# Altium footprint library RelèBluetooth.PcbLib: 19 footprints (part 1 of 2)
Each footprint in its own frame and in the unit in brackets; x right, y up, seen from the top. Pads: shape width x height; smd on the part's side, far side on the other; paste and mask are expansions set on the pad; w line width, h text height; cw(c..) or ccw(c..) is an arc to the next point about the centre after c.
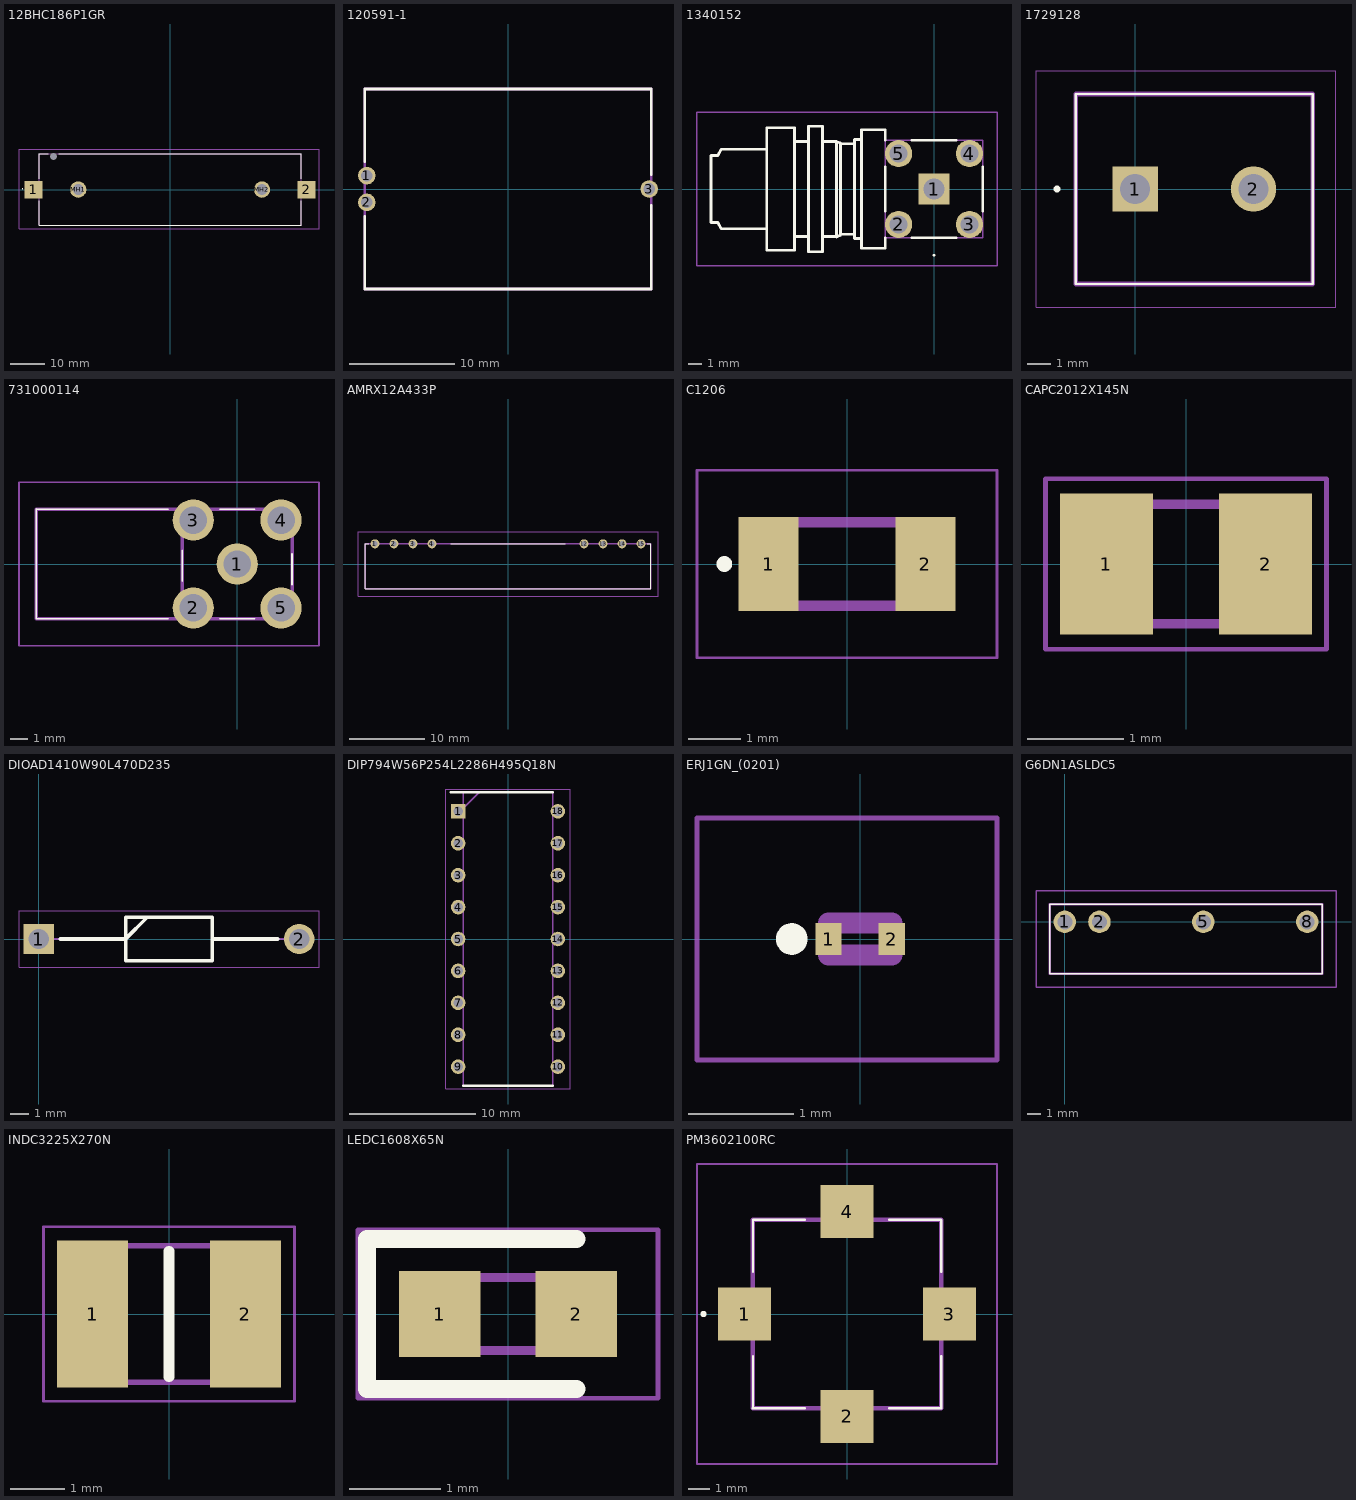
[diagram p0: the footprints below, top view; thin cyan lines are the x and y axes]

## 12BHC186P1GR [mm]
pads (5):
  rect 5.3x5.12 smd: 1(-40.1,0) 2(40.1,0)
  round 4.8 hole 3.2: MH1(-27,0) MH2(27,0)
  round 1 hole 2 unplated: MH3(-34.25,9.75)
Top Overlay:
  lines w0.1: -38.5,-10.5 -38.5,-3.25 -38.5,-10.5 ; -38.5,-10.5 38.5,-10.5 ; -38.5,-10.5 38.5,-10.5 ; -38.5,10.5 -38.5,3.25 -38.5,10.5 ; -38.5,10.5 -35.75,10.5 -38.5,10.5 ; 38.5,-10.5 38.5,-3.25 38.5,-10.5 ; 38.5,10.5 38.5,3.25 38.5,10.5 ; 38.5,10.5 -32.75,10.5 38.5,10.5
  lines w0.2: -43.4,0.25 ccw(c-43.35,0.25) -43.3,0.25 ; -43.4,0.25 cw(c-43.35,0.25) -43.3,0.25 ; -43.4,0.25 ccw(c-43.35,0.25) -43.3,0.25
Mechanical 13:
  lines w0.2: -38.5,-10.5 -38.5,10.5 38.5,10.5 38.5,-10.5 -38.5,-10.5
Mechanical 15:
  lines w0.1: -44.4,-11.5 -44.4,11.85 43.75,11.85 43.75,-11.5 -44.4,-11.5
3D body "12BHC186P1-GR.stp": height 20.3, standoff -1.8, extent -42.68,-10.5 42.42,10.5

## 120591-1 [mm]
pads (3):
  round 1.67 hole 1.12: 1(-13.46,1.27) 2(-13.46,-1.27) 3(13.46,0)
Top Overlay:
  lines w0.254: -13.65,-2.62 -13.65,-9.525 13.65,-9.525 13.65,-1.538 ; -13.65,2.615 -13.65,9.525 13.65,9.525 13.65,1.359
Mechanical 13:
  lines w0.254: -13.65,-9.525 -13.65,9.525 13.65,9.525 13.65,-9.525 -13.65,-9.525
3D body "120591-1.stp": height 6.32, standoff -3.13, extent -13.684,-9.525 13.621,9.525

## 1340152 [mm]
pads (5):
  rect 2.25x2.25 hole 1.5: 1(0,0)
  round 1.95 hole 1.3: 2(-2.54,-2.54) 3(2.54,-2.54) 4(2.54,2.54) 5(-2.54,2.54)
Top Overlay:
  lines w0.1: 0,-4.8 cw(c0,-4.75) 0,-4.7 cw(c0,-4.75) 0,-4.8
  lines w0.2: -12,-3.15 -12,2.85 ; -10,-3.55 -10,3.5 ; -9,-3.5 -9,3.45 ; -8,-3.5 -8,3.45 ; -7,-3.4 -8,-3.4 -8,-4.5 -9,-4.5 -9,-3.4 -10,-3.4 -10,-4.4 -12,-4.4 -12,-2.85 -15.25,-2.85 -15.5,-2.4 -16,-2.4 ; -6.7,-3.25 -5.7,-3.25 -5.7,-3.55 -5.2,-3.55 ; -6.7,3.25 -5.7,3.25 ; -5.7,-3.3 -5.7,3.25 ; -3.5,-3.5 -3.5,-4.25 -5.2,-4.25 -5.2,-3.55 ; -3.5,-1.6 -3.5,1.6 ; -3.5,3.5 -3.5,4.25 -5.2,4.25 -5.2,3.55 ; -1.6,-3.5 1.6,-3.5 ; -1.6,3.5 1.6,3.5 ; 3.5,-1.6 3.5,1.6 ; -16,-2.4 -16,2.4 ; -16,-2.4 -16,2.4 ; -16,2.4 -15.5,2.4 -15.25,2.85 -12,2.85 ; -12,2.85 -12,4.4 -10,4.4 -10,3.4 -9,3.4 -9,4.5 -8,4.5 -8,3.4 -7,3.4 ; -7,3.4 -6.7,3.3 -6.7,-3.3 -7,-3.45 -7,3.4 ; -5.7,3.25 -5.7,3.55 -5.2,3.55 ; -5.2,-3.55 -5.2,3.55
Mechanical 13:
  lines w0.1: -12,-2.85 -15.25,-2.85 -15.5,-2.4 -16,-2.4 -16,2.4 -15.5,2.4 -15.25,2.85 -12,2.85 ; -6.7,-3.15 -6.7,-3.3 -7,-3.45 -7,3.45 -6.7,3.3 -6.7,3.15 ; -12,-4.4 -12,4.4 -10,4.4 -10,-4.4 -12,-4.4 ; -10,-3.4 -10,3.4 -9,3.4 -9,-3.4 -10,-3.4 ; -9,-4.5 -9,4.5 -8,4.5 -8,-4.5 -9,-4.5 ; -8,-3.4 -8,3.4 -7,3.4 -7,-3.4 -8,-3.4 ; -6.7,-3.25 -6.7,3.25 -5.7,3.25 -5.7,-3.25 -6.7,-3.25 ; -5.7,-3.55 -5.7,3.55 -5.2,3.55 -5.2,-3.55 -5.7,-3.55 ; -5.2,-4.25 -3.5,-4.25 -3.5,4.25 -5.2,4.25 -5.2,-4.25 ; -3.5,-3.5 -3.5,3.5 3.5,3.5 3.5,-3.5 -3.5,-3.5
Mechanical 15:
  lines w0.1: -17,-5.5 -17,5.5 4.515,5.5 4.515,-5.5 -17,-5.5
3D body "1340152.stp": height 11.17, standoff -3.78, extent -16.05,-4.75 3.56,4.75

## 1729128 [mm]
pads (2):
  rect 1.95x1.95 hole 1.3: 1(0,0)
  round 1.95 hole 1.3: 2(5.08,0)
Top Overlay:
  circle w0.2: c-3.35,0 r0.05
  lines w0.1: -2.54,-4.075 7.62,-4.075 7.62,4.075 -2.54,4.075 -2.54,-4.075
Mechanical 13:
  lines w0.2: -2.54,-4.075 7.62,-4.075 7.62,4.075 -2.54,4.075 -2.54,-4.075
Mechanical 15:
  lines w0.05: -4.25,-5.075 8.62,-5.075 8.62,5.075 -4.25,5.075 -4.25,-5.075
3D body "1729128.stp": height 10.32, standoff -3.18, extent -2.82,-4.05 7.74,4.05

## 731000114 [mm]
pads (5):
  round 2.385 hole 1.59: 1(0,0) 2(-2.54,-2.54) 3(-2.54,2.54) 4(2.54,2.54) 5(2.54,-2.54)
Top Overlay:
  lines w0.1: -11.625,3.2 -11.625,-3 -11.625,-3.175 -4,-3.175 ; -11.6,3.175 -4,3.175 ; -3.175,-1 -3.175,0.8 ; -1,-3.175 1,-3.175 ; -1,3.175 1,3.175 ; 3.175,-1.2 3.175,0.6
Mechanical 13:
  lines w0.2: -3.175,-3.175 -11.625,-3.175 -11.625,3.175 -3.175,3.175 ; -3.175,-3.175 -3.175,3.175 ; -3.175,-3.175 3.175,-3.175 3.175,3.175 -3.175,3.175
Mechanical 15:
  lines w0.1: -12.625,-4.732 -12.625,4.732 4.732,4.732 4.732,-4.732 -12.625,-4.732
3D body "73100-0114.stp": height 9.57, standoff -3.93, extent -11.6,-3.175 3.2,3.175

## AMRX12A433P [mm]
pads (8):
  round 1.2 hole 0.7: 1(-17.78,2.7) 2(-15.24,2.7) 3(-12.7,2.7) 4(-10.16,2.7) 12(10.16,2.7) 13(12.7,2.7) 14(15.24,2.7) 15(17.78,2.7)
Top Overlay:
  lines w0.1: -18.6,2.7 -19.05,2.7 -19.05,-3.3 19.05,-3.3 19.05,2.7 18.6,2.7 ; -7.62,2.7 7.62,2.7
Mechanical 13:
  lines w0.2: -19.05,-3.3 19.05,-3.3 19.05,2.7 -19.05,2.7 -19.05,-3.3
Mechanical 15:
  lines w0.1: -20.05,-4.3 20.05,-4.3 20.05,4.3 -20.05,4.3 -20.05,-4.3
3D body "AM-RX12A-433P.stp": height 14.1, standoff -5, extent -19.05,-3.3 19.05,2.948

## C1206 [mm]
pads (2):
  rect 1.15x1.8 smd: 1(-1.5,0) 2(1.5,0)
Top Overlay:
  circle w0.2: c-2.35,0 r0.05
Mechanical 13:
  lines w0.2: -1.6,-0.8 -1.6,0.8 1.6,0.8 1.6,-0.8 -1.6,-0.8
Mechanical 15:
  lines w0.05: -2.875,-1.8 -2.875,1.8 2.875,1.8 2.875,-1.8 -2.875,-1.8
3D body "C1206C476M8PACTU.stp": height 1.8, standoff 0, extent -1.75,-0.95 1.75,0.95

## CAPC2012X145N [mm]
pads (2):
  rect 0.97x1.47 smd: 1(-0.83,0) 2(0.83,0)
Mechanical 13:
  lines w0.1: -1,-0.625 -1,0.625 1,0.625 1,-0.625 -1,-0.625
Mechanical 15:
  lines w0.05: -1.465,-0.89 -1.465,0.89 1.465,0.89 1.465,-0.89 -1.465,-0.89
3D body "GRM21BR60J226ME39L.stp": height 1.45, standoff 0, extent -1,-0.625 1,0.625

## DIOAD1410W90L470D235 [mm]
pads (2):
  rect 1.65x1.65 hole 1.1: 1(0,0)
  round 1.65 hole 1.1: 2(14.1,0)
Top Overlay:
  lines w0.2: 1.175,0 4.7,0 5.875,1.175 ; 9.4,0 12.925,0 ; 4.7,-1.175 4.7,1.175 9.4,1.175 9.4,-1.175 4.7,-1.175
Mechanical 13:
  lines w0.1: 0,0 4.7,0 5.875,1.175 ; 9.4,0 14.1,0 ; 4.7,-1.175 4.7,1.175 9.4,1.175 9.4,-1.175 4.7,-1.175
Mechanical 15:
  lines w0.05: -1.075,-1.525 -1.075,1.525 15.175,1.525 15.175,-1.525 -1.075,-1.525
3D body "1N5817.stp": height 2.7, standoff -2.7, extent -0.45,-1.34 14.55,1.34

## DIP794W56P254L2286H495Q18N [mm]
pads (18):
  rect 1.159x1.159 hole 0.759: 1(-3.969,10.16)
  round 1.159 hole 0.759: 2(-3.969,7.62) 3(-3.969,5.08) 4(-3.969,2.54) 5(-3.969,0) 6(-3.969,-2.54) 7(-3.969,-5.08) 8(-3.969,-7.62) 9(-3.969,-10.16) 10(3.969,-10.16) 11(3.969,-7.62) 12(3.969,-5.08) 13(3.969,-2.54) 14(3.969,0) 15(3.969,2.54) 16(3.969,5.08) 17(3.969,7.62) 18(3.969,10.16)
Top Overlay:
  lines w0.2: -4.548,11.684 3.556,11.684 ; -3.556,-11.684 3.556,-11.684
Mechanical 13:
  lines w0.1: -3.556,10.414 -2.286,11.684 ; -3.556,-11.684 3.556,-11.684 3.556,11.684 -3.556,11.684 -3.556,-11.684
Mechanical 15:
  lines w0.05: -4.957,-11.934 4.957,-11.934 4.957,11.934 -4.957,11.934 -4.957,-11.934
3D body "HT12D.stp": height 4.95, standoff -3.5, extent -4.109,-11.43 4.109,11.43

## ERJ1GN_(0201) [mm]
pads (2):
  rect 0.25x0.3 smd: 1(-0.3,0) 2(0.3,0)
Top Overlay:
  circle w0.2: c-0.65,0 r0.05
Mechanical 13:
  lines w0.2: -0.3,-0.15 -0.3,0.15 0.3,0.15 0.3,-0.15 -0.3,-0.15
Mechanical 15:
  lines w0.05: -1.55,-1.15 -1.55,1.15 1.3,1.15 1.3,-1.15 -1.55,-1.15
3D body "ERJ-1GNF3300C.stp": height 0.23, standoff 0, extent -0.3,-0.15 0.3,0.15

## G6DN1ASLDC5 [mm]
pads (4):
  round 1.65 hole 1.1: 1(0,0) 2(2.54,0) 5(10.16,0) 8(17.78,0)
Top Overlay:
  lines w0.1: -1.11,-3.8 -1.11,1.28 18.89,1.28 18.89,-3.8 -1.11,-3.8
Mechanical 13:
  lines w0.2: -1.11,-3.8 -1.11,1.28 18.89,1.28 18.89,-3.8 -1.11,-3.8
Mechanical 15:
  lines w0.1: -2.11,-4.8 -2.11,2.28 19.89,2.28 19.89,-4.8 -2.11,-4.8
3D body "G6DN-1A-SL_DC5.stp": height 15.74, standoff -0.06, extent -1.38,-5.07 18.62,0.01

## INDC3225X270N [mm]
pads (2):
  rect 1.3x2.7 smd: 1(-1.4,0) 2(1.4,0)
Top Overlay:
  lines w0.2: 0,-1.15 0,1.15
Mechanical 13:
  lines w0.1: -1.6,-1.25 -1.6,1.25 1.6,1.25 1.6,-1.25 -1.6,-1.25
Mechanical 15:
  lines w0.05: -2.3,-1.6 -2.3,1.6 2.3,1.6 2.3,-1.6 -2.3,-1.6
3D body "CBC3225T101MR.stp": height 2.7, standoff 0, extent -1.6,-1.25 1.6,1.25

## LEDC1608X65N [mm]
pads (2):
  rect 0.9x0.95 smd: 1(-0.75,0) 2(0.75,0)
Top Overlay:
  lines w0.2: 0.75,-0.825 -1.55,-0.825 -1.55,0.825 0.75,0.825
Mechanical 13:
  lines w0.1: -0.8,0.133 -0.533,0.4 ; -0.8,-0.4 -0.8,0.4 0.8,0.4 0.8,-0.4 -0.8,-0.4
Mechanical 15:
  lines w0.05: -1.65,-0.925 -1.65,0.925 1.65,0.925 1.65,-0.925 -1.65,-0.925
3D body "LTST-C191TBKT.stp": height 0.65, standoff 0, extent -0.88,-0.4 0.72,0.4

## PCBComponent_1 [mm]

## PM3602100RC [mm]
pads (4):
  rect 2.54x2.54 smd: 1(-4.89,0) 2(0,-4.89) 3(4.89,0) 4(0,4.89)
Top Overlay:
  lines w0.1: -4.495,4.495 -4.495,2 -4.495,4.495 ; -4.495,4.495 -4.495,4.5 -2,4.5 -2,4.495 -4.495,4.495 ; 4.495,-4.5 4.495,-2 4.5,-2 4.5,-4.5 4.495,-4.5 ; 4.495,-4.5 2,-4.5 4.495,-4.5 ; 4.495,4.495 4.495,4.5 2,4.5 2,4.495 4.495,4.495 ; 4.495,4.495 4.5,4.495 4.5,2 4.495,2 4.495,4.495 ; -4.5,-4.5 -2,-4.5 -4.5,-4.5 ; -4.495,-4.495 -4.495,-2 -4.495,-4.495
  lines w0.2: -6.9,0 ccw(c-6.85,0) -6.8,0 ; -6.9,0 cw(c-6.85,0) -6.8,0 ; -6.9,0 ccw(c-6.85,0) -6.8,0
Mechanical 13:
  lines w0.2: -4.495,-4.495 -4.495,4.495 4.495,4.495 4.495,-4.495 -4.495,-4.495
Mechanical 15:
  lines w0.1: -7.16,-7.16 -7.16,7.16 7.16,7.16 7.16,-7.16 -7.16,-7.16
3D body "PM3602-100-RC.stp": height 5.82, standoff 0, extent -5.906,-5.906 5.906,5.906